# Altium footprint library main.PcbLib: 34 footprints (part 2 of 3)
Each footprint in its own frame and in the unit in brackets; x right, y up, seen from the top. Pads: shape width x height; smd on the part's side, far side on the other; paste and mask are expansions set on the pad; w line width, h text height; cw(c..) or ccw(c..) is an arc to the next point about the centre after c.
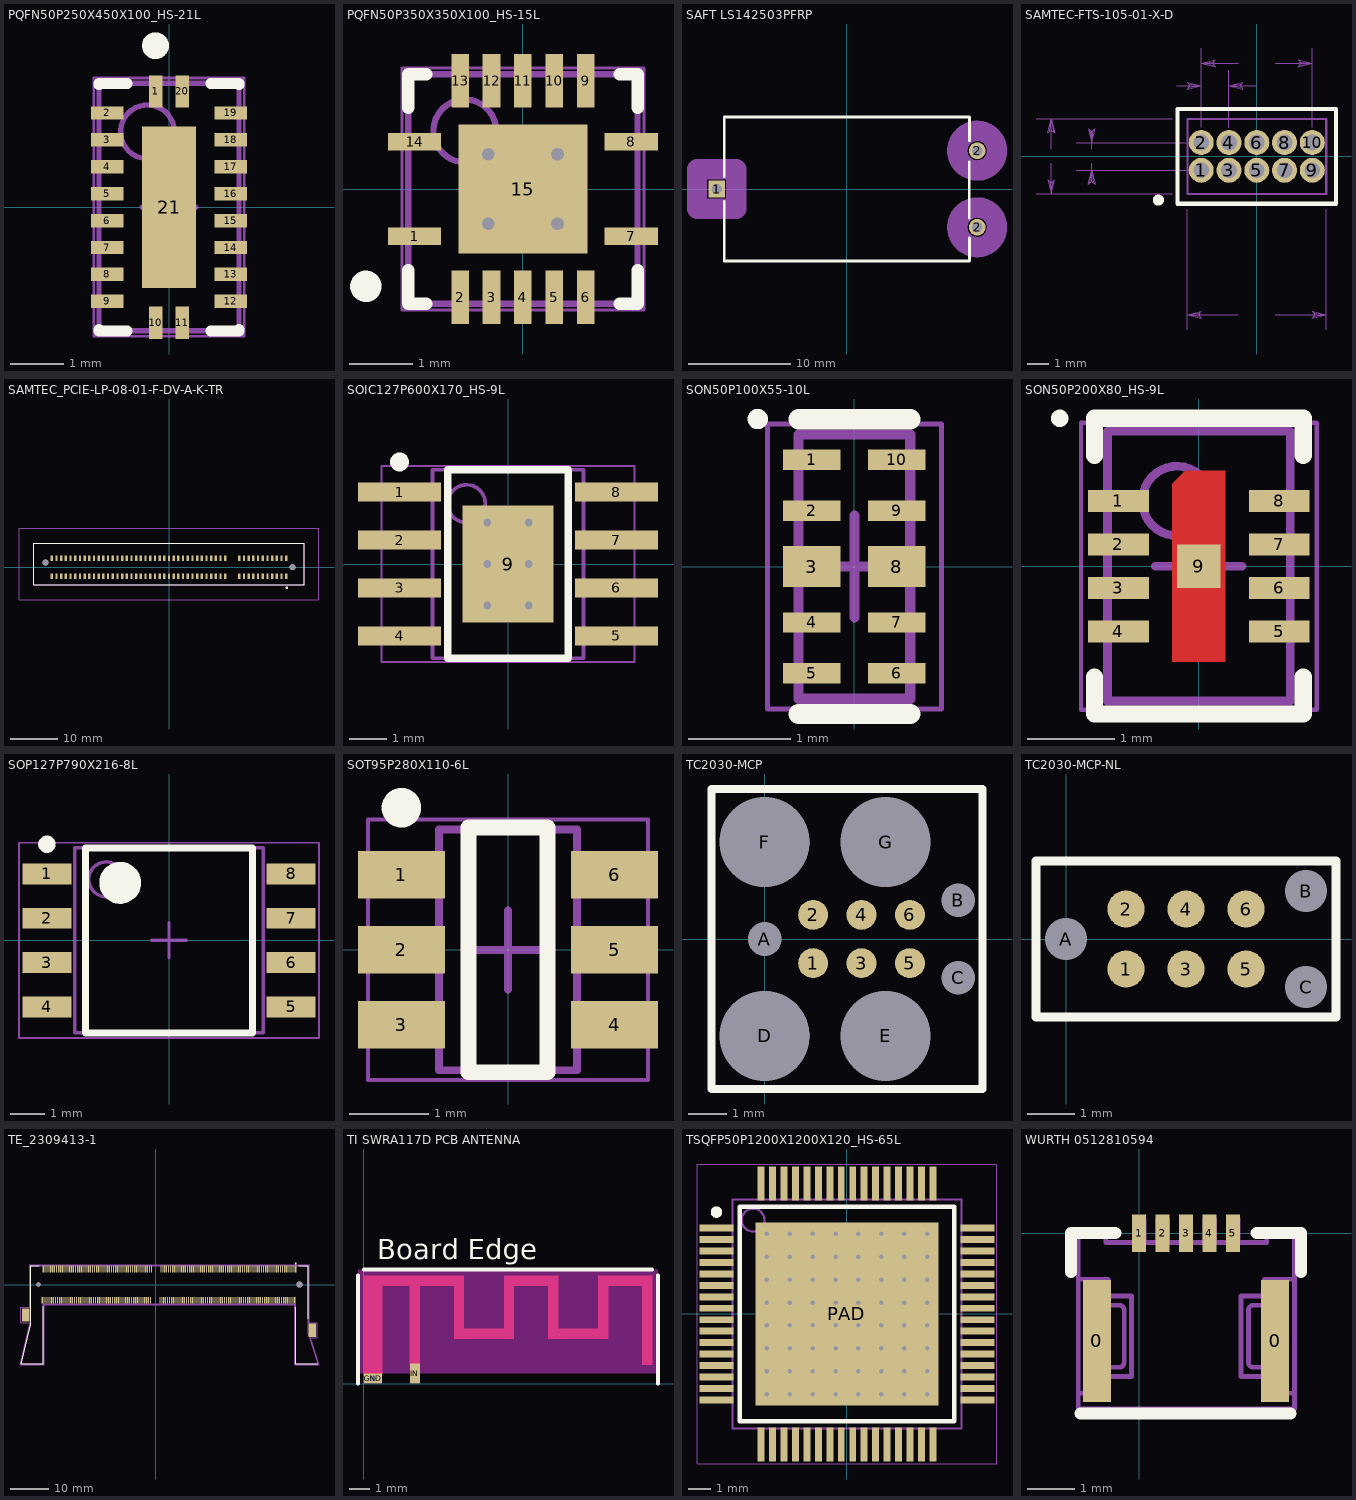
[diagram p1: the footprints below, top view; thin cyan lines are the x and y axes]

## PQFN50P250X450X100_HS-21L [mm] "PQFN, 20-Leads, Body 2.50x4.50mm, Pitch 0.50mm, Thermal Pad 1.00x3.00mm, IPC High Density"
height 1
pads (21):
  rect 0.25x0.6 smd: 1(-0.25,2.15) 10(-0.25,-2.15) 11(0.25,-2.15) 20(0.25,2.15)
  rect 0.6x0.25 smd: 2(-1.15,1.75) 3(-1.15,1.25) 4(-1.15,0.75) 5(-1.15,0.25) 6(-1.15,-0.25) 7(-1.15,-0.75) 8(-1.15,-1.25) 9(-1.15,-1.75) 12(1.15,-1.75) 13(1.15,-1.25) 14(1.15,-0.75) 15(1.15,-0.25) 16(1.15,0.25) 17(1.15,0.75) 18(1.15,1.25) 19(1.15,1.75)
  rect 1x3 smd: 21(0,0)
Top Overlay:
  circle w0.25: c-0.25,3 r0.125
  lines w0.2: -1.3,-2.275 -1.3,-2.3 -0.775,-2.3 ; -1.3,2.275 -1.3,2.3 -0.775,2.3 ; 0.775,-2.3 1.3,-2.3 1.3,-2.275 ; 0.775,2.3 1.3,2.3 1.3,2.275
Mechanical 13:
  circle w0.1: c-0.4,1.4 r0.5
  lines w0.1: -1.3,-2.3 -1.3,2.3 1.3,2.3 1.3,-2.3 -1.3,-2.3
Mechanical 15:
  lines w0.05: -1.4,-2.4 -1.4,2.4 1.4,2.4 1.4,-2.4 -1.4,-2.4
  lines w0.1: -0.5,0 0.5,0 ; 0,-0.5 0,0.5
3D body: height 1, standoff 0, extent -1.3,-2.3 1.3,2.3

## PQFN50P350X350X100_HS-15L [mm] "PQFN, 14-Leads, Body 3.50x3.50mm, Pitch 0.50mm/1.50mm, Thermal Pad 2.05x2.05mm, IPC High Density"
height 1
pads (15):
  rect 0.85x0.28 smd: 1(-1.725,-0.75) 7(1.725,-0.75) 8(1.725,0.75) 14(-1.725,0.75)
  rect 0.28x0.85 smd: 2(-1,-1.725) 3(-0.5,-1.725) 4(0,-1.725) 5(0.5,-1.725) 6(1,-1.725) 9(1,1.725) 10(0.5,1.725) 11(0,1.725) 12(-0.5,1.725) 13(-1,1.725)
  rect 2.05x2.05 smd: 15(0,0)
via 0.55,-0.55 diameter 0.5 hole 0.2
via -0.55,-0.55 diameter 0.5 hole 0.2
via 0.55,0.55 diameter 0.5 hole 0.2
via -0.55,0.55 diameter 0.5 hole 0.2
Top Overlay:
  circle w0.25: c-2.5,-1.55 r0.125
  lines w0.2: -1.825,-1.29 -1.825,-1.825 -1.54,-1.825 ; -1.825,1.29 -1.825,1.825 -1.54,1.825 ; 1.54,-1.825 1.825,-1.825 1.825,-1.29 ; 1.54,1.825 1.825,1.825 1.825,1.29
Mechanical 13:
  circle w0.1: c-0.925,0.925 r0.5
  lines w0.1: -1.825,-1.825 1.825,-1.825 1.825,1.825 -1.825,1.825 -1.825,-1.825
Mechanical 15:
  lines w0.05: -1.925,-1.925 1.925,-1.925 1.925,1.925 -1.925,1.925 -1.925,-1.925
  lines w0.1: -0.5,0 0.5,0 ; 0,-0.5 0,0.5
3D body "PQFN50P350X350X100_HS-15L.step": height 1, standoff 0, extent -1.825,-1.825 1.825,1.825

## SAFT LS142503PFRP [mm]
height 16
pads (3):
  rect 1.65x1.65 hole 1: 1(-12.75,0)
  round 1.65 hole 1: 2(12.75,-3.75) 2(12.75,3.75)
Top Overlay:
  lines w0.254: -12,-1.208 -12,-7.05 12,-7.05 12,-4.812 11.989,-4.801 ; -12,1.205 -12,7.05 12,7.05 12,4.736 ; 11.989,-2.87 11.989,2.642
Mechanical 20:
  circle w2: c12.75,-3.75 r1.939
  circle w2: c12.75,3.75 r1.939
  lines w2: -14.681,-1.93 -14.681,1.93 -10.82,1.93 -10.82,-1.93 -14.681,-1.93
3D body "User Library-ER14250.STEP": height 14.47, standoff -0.03, extent -12.7,-7.3 12.7,7.2

## SAMTEC-FTS-105-01-X-D [mil]
pads (10):
  round 45 hole 27.95: 1(-100,-25) 2(-100,25) 3(-50,-25) 4(-50,25) 5(0,-25) 6(0,25) 7(50,-25) 8(50,25) 9(100,-25) 10(100,25)
Top Overlay:
  circle w10: c-177.17,-78.74 r4.96
  lines w7.87: -142.72,-85.24 142.72,-85.24 142.72,85.24 -142.72,85.24 -142.72,-85.24
Top Solder:
  circle w0: c100,25 r24.49
  circle w0: c100,-25 r24.49
  circle w0: c50,25 r24.49
  circle w0: c50,-25 r24.49
  circle w0: c0,25 r24.49
  circle w0: c0,-25 r24.49
  circle w0: c-50,25 r24.49
  circle w0: c-50,-25 r24.49
  circle w0: c-100,25 r24.49
  circle w0: c-100,-25 r24.49
Bottom Solder:
  circle w0: c100,25 r24.49
  circle w0: c100,-25 r24.49
  circle w0: c50,25 r24.49
  circle w0: c50,-25 r24.49
  circle w0: c0,25 r24.49
  circle w0: c0,-25 r24.49
  circle w0: c-50,25 r24.49
  circle w0: c-50,-25 r24.49
  circle w0: c-100,25 r24.49
  circle w0: c-100,-25 r24.49
Mechanical 16:
  lines w3.94: -125,-67.48 -75,-67.48 -25,-67.48 25,-67.48 75,-67.48 125,-67.48 125,67.48 75,67.48 25,67.48 -25,67.48 -75,67.48 -125,67.48 -125,-67.48 ; -107.99,-32.99 -107.99,-17.01 -92.01,-17.01 -92.01,-32.99 -107.99,-32.99 ; -107.99,17.01 -92.01,17.01 -92.01,32.99 -107.99,32.99 -107.99,17.01 ; -57.99,-32.99 -42.01,-32.99 -42.01,-17.01 -57.99,-17.01 -57.99,-32.99 ; -57.99,17.01 -42.01,17.01 -42.01,32.99 -57.99,32.99 -57.99,17.01 ; -7.99,-32.99 7.99,-32.99 7.99,-17.01 -7.99,-17.01 -7.99,-32.99 ; -7.99,17.01 7.99,17.01 7.99,32.99 -7.99,32.99 -7.99,17.01 ; 42.01,-32.99 57.99,-32.99 57.99,-17.01 42.01,-17.01 42.01,-32.99 ; 42.01,17.01 57.99,17.01 57.99,32.99 42.01,32.99 42.01,17.01 ; 92.01,-32.99 107.99,-32.99 107.99,-17.01 92.01,-17.01 92.01,-32.99 ; 92.01,17.01 107.99,17.01 107.99,32.99 92.01,32.99 92.01,17.01
Mechanical 40:
  lines w0: -397.6,-67.48 -152.6,-67.48 ; -397.6,67.48 -152.6,67.48 ; -370,-12.52 -370,-67.48 ; -370,12.52 -370,67.48 ; -325.12,-25 -127.6,-25 ; -325.12,25 -127.6,25 ; -297.48,-12.52 -297.48,-25 ; -297.48,12.52 -297.48,25 ; -144.02,127.48 -100,127.48 ; -125,-312.6 -125,-95.12 ; -100,155.12 -100,52.6 -100,195.12 ; -50,52.6 -50,155.12 ; -33.5,-285 -125,-285 ; -33.5,167.48 -100,167.48 ; 0,127.48 -50,127.48 ; 33.5,-285 125,-285 ; 33.5,167.48 100,167.48 ; 100,52.6 100,195.12 ; 125,-312.6 125,-95.12 ; -376.26,-42.52 -373.11,-45 -370,-67.48 ; -376.26,-42.52 -370,-47.48 ; -376.26,-42.52 -370,-67.48 ; -370,-67.48 -370,-47.48 ; -370,-67.48 -366.89,-45 -370,-47.48 ; -370,-67.48 -363.74,-42.52 -370,-47.48 ; -370,47.48 -370,67.48 ; -370,47.48 -373.11,45 -370,67.48 ; -370,47.48 -363.74,42.52 ; -370,47.48 -376.26,42.52 -370,67.48 ; -370,67.48 -366.89,45 -363.74,42.52 ; -370,67.48 -363.74,42.52 ; -303.74,50 -300.63,47.48 -297.48,25 ; -303.74,50 -297.48,45 ; -303.74,50 -297.48,25 ; -297.48,-45 -297.48,-25 ; -297.48,-45 -300.63,-47.48 -297.48,-25 ; -297.48,-45 -291.26,-50 ; -297.48,-45 -303.74,-50 -297.48,-25 ; -297.48,-25 -294.37,-47.48 -291.26,-50 ; -297.48,-25 -291.26,-50 ; -297.48,25 -297.48,45 ; -297.48,25 -294.37,47.48 -297.48,45 ; -297.48,25 -291.26,50 -297.48,45 ; -125,-285 -102.52,-281.89 -100,-278.74 ; -125,-285 -105,-285 ; -125,-285 -102.52,-288.11 -105,-285 ; -125,-285 -100,-291.26 -105,-285 ; -125,-285 -100,-278.74 ; -125,121.26 -122.52,124.37 -100,127.48 ; -125,121.26 -120,127.48 ; -125,121.26 -100,127.48 ; -120,127.48 -100,127.48 ; -120,127.48 -122.52,130.63 -100,127.48 ; -120,127.48 -125,133.74 -100,127.48 ; -105,-285 -100,-278.74 ; -100,167.48 -77.48,170.63 -75,173.74 ; -100,167.48 -80,167.48 ; -100,167.48 -77.48,164.37 -80,167.48 ; -100,167.48 -75,161.26 -80,167.48 ; -100,167.48 -75,173.74 ; -80,167.48 -75,173.74 ; -50,127.48 -27.48,130.63 -25,133.74 ; -50,127.48 -30,127.48 ; -50,127.48 -27.48,124.37 -30,127.48 ; -50,127.48 -25,121.26 -30,127.48 ; -50,127.48 -25,133.74 ; -30,127.48 -25,133.74 ; 75,161.26 77.48,164.37 100,167.48 ; 75,161.26 80,167.48 ; 75,161.26 100,167.48 ; 80,167.48 100,167.48 ; 80,167.48 77.48,170.63 100,167.48 ; 80,167.48 75,173.74 100,167.48 ; 100,-291.26 102.52,-288.11 125,-285 ; 100,-291.26 105,-285 ; 100,-291.26 125,-285 ; 105,-285 125,-285 ; 105,-285 102.52,-281.89 125,-285 ; 105,-285 100,-278.74 125,-285
  text "5.080" at -25.98,162.52 h15.5
  text "6.350" at -25.98,-290 h15.5
  text "1.270" at -203.5,122.52 h15.5
  text "1.270" at -323.5,-5 h15.5
  text "3.429" at -395.98,-5 h15.5
Mechanical 42:
  lines w3.94: -142.72,-85.24 142.72,-85.24 142.72,85.24 -142.72,85.24 -142.72,-85.24
3D body "FTS-105-01-L-D.stp": height 154.5, standoff -89.5, extent -125.01,-67.5 124.99,67.5

## SAMTEC_PCIE-LP-08-01-F-DV-A-K-TR [mm]
pads (100):
  rect 0.5x1.2 smd: A01(25,-1.9) A02(24,-1.9) A03(23,-1.9) A04(22,-1.9) A05(21,-1.9) A06(20,-1.9) A07(19,-1.9) A08(18,-1.9) A09(17,-1.9) A10(16,-1.9) A11(15,-1.9) A12(12,-1.9) A13(11,-1.9) A14(10,-1.9) A15(9,-1.9) A16(8,-1.9) A17(7,-1.9) A18(6,-1.9) A19(5,-1.9) A20(4,-1.9) A21(3,-1.9) A22(2,-1.9) A23(1,-1.9) A24(0,-1.9) A25(-1,-1.9) A26(-2,-1.9) A27(-3,-1.9) A28(-4,-1.9) A29(-5,-1.9) A30(-6,-1.9) A31(-7,-1.9) A32(-8,-1.9) A33(-9,-1.9) A34(-10,-1.9) A35(-11,-1.9) A36(-12,-1.9) A37(-13,-1.9) A38(-14,-1.9) A39(-15,-1.9) A40(-16,-1.9) A41(-17,-1.9) A42(-18,-1.9) A43(-19,-1.9) A44(-20,-1.9) A45(-21,-1.9) A46(-22,-1.9) A47(-23,-1.9) A48(-24,-1.9) A49(-25,-1.9) B01(25,1.9) B02(24,1.9) B03(23,1.9) B04(22,1.9) B05(21,1.9) B06(20,1.9) B07(19,1.9) B08(18,1.9) B09(17,1.9) B10(16,1.9) B11(15,1.9) B12(12,1.9) B13(11,1.9) B14(10,1.9) B15(9,1.9) B16(8,1.9) B17(7,1.9) B18(6,1.9) B19(5,1.9) B20(4,1.9) B21(3,1.9) B22(2,1.9) B23(1,1.9) B24(0,1.9) B25(-1,1.9) B26(-2,1.9) B27(-3,1.9) B28(-4,1.9) B29(-5,1.9) B30(-6,1.9) B31(-7,1.9) B32(-8,1.9) B33(-9,1.9) B34(-10,1.9) B35(-11,1.9) B36(-12,1.9) B37(-13,1.9) B38(-14,1.9) B39(-15,1.9) B40(-16,1.9) B41(-17,1.9) B42(-18,1.9) B43(-19,1.9) B44(-20,1.9) B45(-21,1.9) B46(-22,1.9) B47(-23,1.9) B48(-24,1.9) B49(-25,1.9)
  round 1.27 hole 1.27 unplated: ""(-26.35,1) ""(26.35,0)
Top Overlay:
  circle w0.3: c25.1,-4.4 r0.1
  lines w0.2: -28.8,-3.75 -28.8,5.1 28.8,5.1 28.8,-3.75 -28.8,-3.75
Mechanical 13:
  circle w0.3: c25.1,-4.4 r0.1
  lines w0.1: -28.8,-3.75 -28.8,5.1 28.8,5.1 28.8,-3.75 -28.8,-3.75
Mechanical 15:
  lines w0.05: -32,-6.93 -32,8.28 32,8.28 32,-6.93 -32,-6.93

## SOIC127P600X170_HS-9L [mm] "SOIC, 8-Leads, Body 4.90x3.90mm, Pitch 1.27mm, Thermal Pad 3.10x2.40mm, IPC High Density"
height 1.7
pads (9):
  rect 2.2x0.5 smd: 1(-2.875,1.905) 2(-2.875,0.635) 3(-2.875,-0.635) 4(-2.875,-1.905) 5(2.875,-1.905) 6(2.875,-0.635) 7(2.875,0.635) 8(2.875,1.905)
  rect 2.4x3.1 smd: 9(0,0)
via 0.55,-1.1 diameter 0.5 hole 0.2
via -0.55,-1.1 diameter 0.5 hole 0.2
via 0.55,0 diameter 0.5 hole 0.2
via -0.55,0 diameter 0.5 hole 0.2
via 0.55,1.1 diameter 0.5 hole 0.2
via -0.55,1.1 diameter 0.5 hole 0.2
Top Overlay:
  circle w0.25: c-2.875,2.705 r0.125
  lines w0.2: -1.6,-2.5 1.6,-2.5 1.6,2.5 -1.6,2.5 -1.6,-2.5
Mechanical 13:
  circle w0.1: c-1.1,1.6 r0.5
  lines w0.1: -2,-2.5 2,-2.5 2,2.5 -2,2.5 -2,-2.5
Mechanical 15:
  lines w0.05: -3.35,-2.6 3.35,-2.6 3.35,2.6 -3.35,2.6 -3.35,-2.6
  lines w0.1: -0.5,0 0.5,0 ; 0,-0.5 0,0.5
3D body "SOIC127P600X170_HS-9L.step": height 1.7, standoff 0, extent -3,-2.5 3,2.5

## SON50P100X55-10L [mm] "SON, 10-Leads, Body 2.50x1.00mm, Pitch 0.50mm, IPC High Density"
height 0.55
pads (10):
  rect 0.565x0.2 smd mask+0.07: 1(-0.417,1.05) 2(-0.417,0.55) 4(-0.417,-0.55) 5(-0.417,-1.05) 6(0.417,-1.05) 7(0.417,-0.55) 9(0.417,0.55) 10(0.417,1.05)
  rect 0.565x0.4 smd mask+0.07: 3(-0.417,0) 8(0.417,0)
Top Overlay:
  circle w0.1: c-0.95,1.45 r0.05
  lines w0.2: -0.55,-1.45 0.55,-1.45 ; -0.55,1.45 0.55,1.45
Mechanical 13:
  lines w0.1: -0.55,-1.3 -0.55,1.3 0.55,1.3 0.55,-1.3 -0.55,-1.3
Mechanical 15:
  lines w0.05: -0.855,-1.4 -0.855,1.4 0.855,1.4 0.855,-1.4 -0.855,-1.4
  lines w0.1: -0.5,0 0.5,0 ; 0,-0.5 0,0.5
3D body "SON50P100X55-10L.step": height 0.55, standoff 0, extent -0.63,-1.3 0.63,1.3

## SON50P200X80_HS-9L [mm] "SON, 8-Leads, Body 3.00x2.00mm, Pitch 0.50mm, Thermal Pad 0.00x0.00mm, IPC High Density"
height 0.8
pads (9):
  rect 0.7x0.25 smd: 1(-0.925,0.75) 2(-0.925,0.25) 3(-0.925,-0.25) 4(-0.925,-0.75) 5(0.925,-0.75) 6(0.925,-0.25) 7(0.925,0.25) 8(0.925,0.75)
  rect 0.5x0.5 smd paste+0 mask+0: 9(0,0)
Top Layer:
  region: -0.305,-1.1 0.305,-1.1 0.305,1.1 -0.155,1.1 -0.305,0.95
Top Overlay:
  circle w0.1: c-1.6,1.7 r0.05
  lines w0.2: -1.2,-1.275 -1.2,-1.7 1.2,-1.7 1.2,-1.275 ; -1.2,1.275 -1.2,1.7 1.2,1.7 1.2,1.275
Mechanical 13:
  circle w0.1: c-0.25,0.75 r0.4
  lines w0.1: -1.05,-1.55 -1.05,1.55 1.05,1.55 1.05,-1.55 -1.05,-1.55
Mechanical 15:
  lines w0.05: -1.355,-1.65 -1.355,1.65 1.355,1.65 1.355,-1.65 -1.355,-1.65
  lines w0.1: -0.5,0 0.5,0 ; 0,-0.5 0,0.5
3D body: height 0.8, standoff 0, extent -1.05,-1.55 1.05,1.55

## SOP127P790X216-8L [mm] "SOP, 8-Leads, Body 5.23x5.28mm, Pitch 1.27mm, IPC High Density"
height 2.16
pads (8):
  rect 1.4x0.6 smd: 1(-3.5,1.905) 2(-3.5,0.635) 3(-3.5,-0.635) 4(-3.5,-1.905) 5(3.5,-1.905) 6(3.5,-0.635) 7(3.5,0.635) 8(3.5,1.905)
Top Overlay:
  circle w0.6: c-1.4,1.65 r0.3
  circle w0.25: c-3.5,2.755 r0.125
  lines w0.2: -2.4,-2.65 2.4,-2.65 2.4,2.65 -2.4,2.65 -2.4,-2.65
Mechanical 13:
  circle w0.1: c-1.8,1.75 r0.5
  lines w0.1: -2.7,-2.65 2.7,-2.65 2.7,2.65 -2.7,2.65 -2.7,-2.65
Mechanical 15:
  lines w0.05: -4.3,-2.8 4.3,-2.8 4.3,2.8 -4.3,2.8 -4.3,-2.8
  lines w0.1: -0.5,0 0.5,0 ; 0,-0.5 0,0.5
3D body "SOP127P790X216-8L.step": height 2.16, standoff 0, extent -3.95,-2.65 3.95,2.65

## SOT95P280X110-6L [mm] "SOT23, 6-Leads, Body 2.90x2.80mm, Pitch 0.95mm, IPC High Density"
height 1.1
pads (6):
  rect 1.1x0.6 smd mask+0.07: 1(-1.35,0.95) 2(-1.35,0) 3(-1.35,-0.95) 4(1.35,-0.95) 5(1.35,0) 6(1.35,0.95)
Top Overlay:
  circle w0.25: c-1.35,1.8 r0.125
  lines w0.2: -0.5,-1.55 0.5,-1.55 0.5,1.55 -0.5,1.55 -0.5,-1.55
Mechanical 13:
  lines w0.1: -0.875,-1.525 -0.875,1.525 0.875,1.525 0.875,-1.525 -0.875,-1.525
Mechanical 15:
  lines w0.05: -1.775,-1.65 -1.775,1.65 1.775,1.65 1.775,-1.65 -1.775,-1.65
  lines w0.1: -0.5,0 0.5,0 ; 0,-0.5 0,0.5
3D body "SOT95P280X110-6L.step": height 1.1, standoff 0, extent -1.525,-1.525 1.525,1.525

## TC2030-MCP [mil]
pads (13):
  round 31 smd: 1(50,-25) 2(50,25) 3(100,-25) 4(100,25) 5(150,-25) 6(150,25)
  round 34 hole 35 unplated: A(0,0) B(200,40) C(200,-40)
  round 92 hole 93 unplated: D(0,-100) E(125,-100) F(0,100) G(125,100)
Top Overlay:
  lines w7.87: -55,-155 225,-155 225,155 -55,155 -55,-155

## TC2030-MCP-NL [mil]
pads (9):
  round 31 smd: 1(50,-25) 2(50,25) 3(100,-25) 4(100,25) 5(150,-25) 6(150,25)
  round 34 hole 35 unplated: A(0,0) B(200,40) C(200,-40)
Top Overlay:
  lines w7.87: -25,-65 225,-65 225,65 -25,65 -25,-65

## TE_2309413-1 [mm]
pads (264):
  rect 0.3x1.75 smd: 1(36.875,4.1) 2(36.625,-4.1) 3(36.375,4.1) 4(36.125,-4.1) 5(35.875,4.1) 6(35.625,-4.1) 7(35.375,4.1) 8(35.125,-4.1) 9(34.875,4.1) 10(34.625,-4.1) 11(34.375,4.1) 12(34.125,-4.1) 13(33.875,4.1) 14(33.625,-4.1) 15(33.375,4.1) 16(33.125,-4.1) 17(32.875,4.1) 18(32.625,-4.1) 19(32.375,4.1) 20(32.125,-4.1) 21(31.875,4.1) 22(31.625,-4.1) 23(31.375,4.1) 24(31.125,-4.1) 25(30.875,4.1) 26(30.625,-4.1) 27(30.375,4.1) 28(30.125,-4.1) 29(29.875,4.1) 30(29.625,-4.1) 31(29.375,4.1) 32(29.125,-4.1) 33(28.875,4.1) 34(28.625,-4.1) 35(28.375,4.1) 36(28.125,-4.1) 37(27.875,4.1) 38(27.625,-4.1) 39(27.375,4.1) 40(27.125,-4.1) 41(26.875,4.1) 42(26.625,-4.1) 43(26.375,4.1) 44(26.125,-4.1) 45(25.875,4.1) 46(25.625,-4.1) 47(25.375,4.1) 48(25.125,-4.1) 49(24.875,4.1) 50(24.625,-4.1) 51(24.375,4.1) 52(24.125,-4.1) 53(23.875,4.1) 54(23.625,-4.1) 55(23.375,4.1) 56(23.125,-4.1) 57(22.875,4.1) 58(22.625,-4.1) 59(22.375,4.1) 60(22.125,-4.1) 61(21.875,4.1) 62(21.625,-4.1) 63(21.375,4.1) 64(21.125,-4.1) 65(20.875,4.1) 66(20.625,-4.1) 67(20.375,4.1) 68(20.125,-4.1) 69(19.875,4.1) 70(19.625,-4.1) 71(19.375,4.1) 72(19.125,-4.1) 73(18.875,4.1) 74(18.625,-4.1) 75(18.375,4.1) 76(18.125,-4.1) 77(17.875,4.1) 78(17.625,-4.1) 79(17.375,4.1) 80(17.125,-4.1) 81(16.875,4.1) 82(16.625,-4.1) 83(16.375,4.1) 84(16.125,-4.1) 85(15.875,4.1) 86(15.625,-4.1) 87(15.375,4.1) 88(15.125,-4.1) 89(14.875,4.1) 90(14.625,-4.1) 91(14.375,4.1) 92(14.125,-4.1) 93(13.875,4.1) 94(13.625,-4.1) 95(13.375,4.1) 96(13.125,-4.1) 97(12.875,4.1) 98(12.625,-4.1) 99(12.375,4.1) 100(12.125,-4.1) 101(11.875,4.1) 102(11.625,-4.1) 103(11.375,4.1) 104(11.125,-4.1) 105(10.875,4.1) 106(10.625,-4.1) 107(10.375,4.1) 108(10.125,-4.1) 109(9.875,4.1) 110(9.625,-4.1) 111(9.375,4.1) 112(9.125,-4.1) 113(8.875,4.1) 114(8.625,-4.1) 115(8.375,4.1) 116(8.125,-4.1) 117(7.875,4.1) 118(7.625,-4.1) 119(7.375,4.1) 120(7.125,-4.1) 121(6.875,4.1) 122(6.625,-4.1) 123(6.375,4.1) 124(6.125,-4.1) 125(5.875,4.1) 126(5.625,-4.1) 127(5.375,4.1) 128(5.125,-4.1) 129(4.875,4.1) 130(4.625,-4.1) 131(4.375,4.1) 132(4.125,-4.1) 133(3.875,4.1) 134(3.625,-4.1) 135(3.375,4.1) 136(3.125,-4.1) 137(2.875,4.1) 138(2.625,-4.1) 139(2.375,4.1) 140(2.125,-4.1) 141(1.875,4.1) 142(1.625,-4.1) 143(1.375,4.1) 144(1.125,-4.1) 145(-1.125,4.1) 146(-1.375,-4.1) 147(-1.625,4.1) 148(-1.875,-4.1) 149(-2.125,4.1) 150(-2.375,-4.1) 151(-2.625,4.1) 152(-2.875,-4.1) 153(-3.125,4.1) 154(-3.375,-4.1) 155(-3.625,4.1) 156(-3.875,-4.1) 157(-4.125,4.1) 158(-4.375,-4.1) 159(-4.625,4.1) 160(-4.875,-4.1) 161(-5.125,4.1) 162(-5.375,-4.1) 163(-5.625,4.1) 164(-5.875,-4.1) 165(-6.125,4.1) 166(-6.375,-4.1) 167(-6.625,4.1) 168(-6.875,-4.1) 169(-7.125,4.1) 170(-7.375,-4.1) 171(-7.625,4.1) 172(-7.875,-4.1) 173(-8.125,4.1) 174(-8.375,-4.1) 175(-8.625,4.1) 176(-8.875,-4.1) 177(-9.125,4.1) 178(-9.375,-4.1) 179(-9.625,4.1) 180(-9.875,-4.1) 181(-10.125,4.1) 182(-10.375,-4.1) 183(-10.625,4.1) 184(-10.875,-4.1) 185(-11.125,4.1) 186(-11.375,-4.1) 187(-11.625,4.1) 188(-11.875,-4.1) 189(-12.125,4.1) 190(-12.375,-4.1) 191(-12.625,4.1) 192(-12.875,-4.1) 193(-13.125,4.1) 194(-13.375,-4.1) 195(-13.625,4.1) 196(-13.875,-4.1) 197(-14.125,4.1) 198(-14.375,-4.1) 199(-14.625,4.1) 200(-14.875,-4.1) 201(-15.125,4.1) 202(-15.375,-4.1) 203(-15.625,4.1) 204(-15.875,-4.1) 205(-16.125,4.1) 206(-16.375,-4.1) 207(-16.625,4.1) 208(-16.875,-4.1) 209(-17.125,4.1) 210(-17.375,-4.1) 211(-17.625,4.1) 212(-17.875,-4.1) 213(-18.125,4.1) 214(-18.375,-4.1) 215(-18.625,4.1) 216(-18.875,-4.1) 217(-19.125,4.1) 218(-19.375,-4.1) 219(-19.625,4.1) 220(-19.875,-4.1) 221(-20.125,4.1) 222(-20.375,-4.1) 223(-20.625,4.1) 224(-20.875,-4.1) 225(-21.125,4.1) 226(-21.375,-4.1) 227(-21.625,4.1) 228(-21.875,-4.1) 229(-22.125,4.1) 230(-22.375,-4.1) 231(-22.625,4.1) 232(-22.875,-4.1) 233(-23.125,4.1) 234(-23.375,-4.1) 235(-23.625,4.1) 236(-23.875,-4.1) 237(-24.125,4.1) 238(-24.375,-4.1) 239(-24.625,4.1) 240(-24.875,-4.1) 241(-25.125,4.1) 242(-25.375,-4.1) 243(-25.625,4.1) 244(-25.875,-4.1) 245(-26.125,4.1) 246(-26.375,-4.1) 247(-26.625,4.1) 248(-26.875,-4.1) 249(-27.125,4.1) 250(-27.375,-4.1) 251(-27.625,4.1) 252(-27.875,-4.1) 253(-28.125,4.1) 254(-28.375,-4.1) 255(-28.625,4.1) 256(-28.875,-4.1) 257(-29.125,4.1) 258(-29.375,-4.1) 259(-29.625,4.1) 260(-29.875,-4.1)
  rect 2x3.5 smd: SH1(41.25,-12) SH2(-34.25,-8)
  round 1.1 hole 1.1 unplated: ""(-30.9,0)
  round 1.6 hole 1.6 unplated: ""(37.9,0)
Top Overlay:
  circle w0.2: c36.875,5.5 r0.1
  lines w0.127: -30.725,5 -32.875,5 -32.875,-10.425 -35.375,-20.85 -29.625,-20.85 -29.625,-5.75 ; 36.875,-6 36.875,-20.85 42.625,-20.85 ; 37.725,5 40.125,5 40.125,-9.031
Mechanical 13:
  circle w0.1: c36.875,4.5 r0.05
  lines w0.127: -35.375,-20.85 -32.875,-10.425 -32.875,5 40.125,5 40.125,-13.031 42.625,-20.85 36.875,-20.85 36.875,-5 -29.625,-5 -29.625,-20.85 -35.375,-20.85
Mechanical 15:
  lines w0.05: -35.625,-21.1 -29.375,-21.1 -29.375,-5.25 36.625,-5.25 36.625,-21.1 42.875,-21.1 40.875,-14.531 40.875,-14 42.5,-14 42.5,-10 40.375,-10 40.375,5.25 -33.125,5.25 -33.125,-6 -35.5,-6 -35.5,-10 -33.125,-10 -33.125,-10.425 -35.625,-21.1
3D body "c-2309413-1-1-3d.stp": height 9.65, standoff 0, extent -34.545,-20.85 41.554,5

## TI SWRA117D PCB ANTENNA [mm]
pads (2):
  rect 0.9x0.5 / inner rect 0x0 / far side rect 0.9x0.5 hole 0.3 paste-0.45 mask+0: GND(0.45,0.25)
  rect 0.5x1 / inner rect 0x0 / far side rect 0x0 all layers, no hole paste-0.5 mask+0: IN(2.55,0.5)
Top Layer:
  region: 2.3,0.888 2.8,0.888 2.8,4.9 2.3,4.9
  region: 13.9,4.9 14.4,4.9 14.4,0.96 13.9,0.96
  region: 11.7,4.9 11.7,5.4 14.4,5.4 14.4,4.9
  region: 12.2,2.26 11.7,2.26 11.7,4.9 12.2,4.9
  region: 9.7,2.26 9.7,2.76 11.7,2.76 11.7,2.26
  region: 9.2,4.9 9.7,4.9 9.7,2.26 9.2,2.26
  region: 7,4.9 7,5.4 9.7,5.4 9.7,4.9
  region: 7.5,2.26 7,2.26 7,4.9 7.5,4.9
  region: 5,2.26 5,2.76 7,2.76 7,2.26
  region: 4.5,4.9 5,4.9 5,2.26 4.5,2.26
  region: 0,4.9 0,5.4 5,5.4 5,4.9
  region: 0,0.463 0.9,0.463 0.9,4.9 0,4.9
Top Overlay:
  lines w0.2: -0.3,0 -0.3,5.4 ; 0,5.7 14.4,5.7 ; 14.7,0 14.7,5.4
  text "Board Edge" at 0.65,6.233 h1
Keep-Out Layer:
  rectangle: -0.3,0.5 14.7,5.7

## TSQFP50P1200X1200X120_HS-65L [mm] "TSQFP, 64-Leads, Body 10.00x10.00mm, Pitch 0.50mm, Thermal Pad 8.00x8.00mm, IPC High Density"
height 1.2
pads (65):
  rect 1.5x0.3 smd mask+0.05: 1(-5.7,3.75) 2(-5.7,3.25) 3(-5.7,2.75) 4(-5.7,2.25) 5(-5.7,1.75) 6(-5.7,1.25) 7(-5.7,0.75) 8(-5.7,0.25) 9(-5.7,-0.25) 10(-5.7,-0.75) 11(-5.7,-1.25) 12(-5.7,-1.75) 13(-5.7,-2.25) 14(-5.7,-2.75) 15(-5.7,-3.25) 16(-5.7,-3.75) 33(5.7,-3.75) 34(5.7,-3.25) 35(5.7,-2.75) 36(5.7,-2.25) 37(5.7,-1.75) 38(5.7,-1.25) 39(5.7,-0.75) 40(5.7,-0.25) 41(5.7,0.25) 42(5.7,0.75) 43(5.7,1.25) 44(5.7,1.75) 45(5.7,2.25) 46(5.7,2.75) 47(5.7,3.25) 48(5.7,3.75)
  rect 0.3x1.5 smd mask+0.05: 17(-3.75,-5.7) 18(-3.25,-5.7) 19(-2.75,-5.7) 20(-2.25,-5.7) 21(-1.75,-5.7) 22(-1.25,-5.7) 23(-0.75,-5.7) 24(-0.25,-5.7) 25(0.25,-5.7) 26(0.75,-5.7) 27(1.25,-5.7) 28(1.75,-5.7) 29(2.25,-5.7) 30(2.75,-5.7) 31(3.25,-5.7) 32(3.75,-5.7) 49(3.75,5.7) 50(3.25,5.7) 51(2.75,5.7) 52(2.25,5.7) 53(1.75,5.7) 54(1.25,5.7) 55(0.75,5.7) 56(0.25,5.7) 57(-0.25,5.7) 58(-0.75,5.7) 59(-1.25,5.7) 60(-1.75,5.7) 61(-2.25,5.7) 62(-2.75,5.7) 63(-3.25,5.7) 64(-3.75,5.7)
  rect 8x8 smd mask-1.78: PAD(0,0)
via 3.5,3.5 diameter 0.3 hole 0.2
via 2.5,3.5 diameter 0.3 hole 0.2
via -3.5,3.5 diameter 0.3 hole 0.2
via -2.5,3.5 diameter 0.3 hole 0.2
via -1.5,3.5 diameter 0.3 hole 0.2
via -0.5,3.5 diameter 0.3 hole 0.2
via 0.5,3.5 diameter 0.3 hole 0.2
via 1.5,3.5 diameter 0.3 hole 0.2
via 2.5,-0.5 diameter 0.3 hole 0.2
via 2.5,-2.5 diameter 0.3 hole 0.2
via 3.5,-2.5 diameter 0.3 hole 0.2
via 2.5,-1.5 diameter 0.3 hole 0.2
via 3.5,-1.5 diameter 0.3 hole 0.2
via 2.5,-3.5 diameter 0.3 hole 0.2
via 2.5,0.5 diameter 0.3 hole 0.2
via 3.5,0.5 diameter 0.3 hole 0.2
via 2.5,1.5 diameter 0.3 hole 0.2
via 3.5,1.5 diameter 0.3 hole 0.2
via 2.5,2.5 diameter 0.3 hole 0.2
via 3.5,2.5 diameter 0.3 hole 0.2
via 3.5,-0.5 diameter 0.3 hole 0.2
via 3.5,-3.5 diameter 0.3 hole 0.2
via 1.5,-3.5 diameter 0.3 hole 0.2
via -1.5,1.5 diameter 0.3 hole 0.2
via -0.5,1.5 diameter 0.3 hole 0.2
via 0.5,1.5 diameter 0.3 hole 0.2
via 1.5,1.5 diameter 0.3 hole 0.2
via 0.5,0.5 diameter 0.3 hole 0.2
via 1.5,0.5 diameter 0.3 hole 0.2
via -2.5,-0.5 diameter 0.3 hole 0.2
via -3.5,-1.5 diameter 0.3 hole 0.2
via -3.5,-3.5 diameter 0.3 hole 0.2
via -2.5,-1.5 diameter 0.3 hole 0.2
via -2.5,-3.5 diameter 0.3 hole 0.2
via -2.5,-2.5 diameter 0.3 hole 0.2
via -2.5,0.5 diameter 0.3 hole 0.2
via -3.5,0.5 diameter 0.3 hole 0.2
via -2.5,1.5 diameter 0.3 hole 0.2
via -3.5,1.5 diameter 0.3 hole 0.2
via -2.5,2.5 diameter 0.3 hole 0.2
via -3.5,2.5 diameter 0.3 hole 0.2
via -3.5,-0.5 diameter 0.3 hole 0.2
via -3.5,-2.5 diameter 0.3 hole 0.2
via -0.5,0.5 diameter 0.3 hole 0.2
via 1.5,-0.5 diameter 0.3 hole 0.2
via -1.5,0.5 diameter 0.3 hole 0.2
via -1.5,-0.5 diameter 0.3 hole 0.2
via -0.5,-0.5 diameter 0.3 hole 0.2
via 0.5,-0.5 diameter 0.3 hole 0.2
via 1.5,-1.5 diameter 0.3 hole 0.2
via 0.5,-1.5 diameter 0.3 hole 0.2
via -0.5,-1.5 diameter 0.3 hole 0.2
via -1.5,-1.5 diameter 0.3 hole 0.2
via 1.5,-2.5 diameter 0.3 hole 0.2
via 0.5,-2.5 diameter 0.3 hole 0.2
via -0.5,-2.5 diameter 0.3 hole 0.2
via 1.5,2.5 diameter 0.3 hole 0.2
via -1.5,2.5 diameter 0.3 hole 0.2
via -0.5,2.5 diameter 0.3 hole 0.2
via 0.5,2.5 diameter 0.3 hole 0.2
via -1.5,-3.5 diameter 0.3 hole 0.2
via -0.5,-3.5 diameter 0.3 hole 0.2
via 0.5,-3.5 diameter 0.3 hole 0.2
via -1.5,-2.5 diameter 0.3 hole 0.2
Top Overlay:
  circle w0.25: c-5.7,4.45 r0.125
  lines w0.2: -4.675,-4.675 -4.675,4.675 4.675,4.675 4.675,-4.675 -4.675,-4.675
Mechanical 13:
  circle w0.1: c-4.1,4.1 r0.5
  lines w0.1: -5,-5 -5,5 5,5 5,-5 -5,-5
Mechanical 15:
  lines w0.05: -6.55,-6.55 -6.55,6.55 6.55,6.55 6.55,-6.55 -6.55,-6.55
  lines w0.1: -0.5,0 0.5,0 ; 0,-0.5 0,0.5
3D body "TSQFP50P1200X1200X120_HS-65L.step": height 1.2, standoff 0, extent -6,-6 6,6

## WURTH 0512810594 [mm]
pads (7):
  rect 0.6x2.6 smd: 0(-0.9,-2.3) 0(2.9,-2.3)
  rect 0.3x0.8 smd: 1(0,0) 2(0.5,0) 3(1,0) 4(1.5,0) 5(2,0)
Top Overlay:
  lines w0.254: -1.45,-0.825 -1.45,0 -0.5,0 ; -1.25,-3.85 3.225,-3.85 ; 2.5,0 3.45,0 3.45,-0.825
Mechanical 7:
  lines w0.1: -1.3,-3.416 -0.661,-3.416 -0.661,-3.06 -0.162,-3.06 -0.162,-1.34 -0.661,-1.34 -0.661,-0.983 -1.3,-0.983 ; -1.033,-3.416 -1.033,-0.983 ; -1.027,-2.86 -0.422,-2.86 ccw(c-0.418,-2.762) -0.321,-2.761 -0.321,-1.642 ccw(c-0.418,-1.638) -0.422,-1.54 -1.027,-1.54 ; -0.098,-0.198 -0.098,0.305 0.106,0.305 0.106,-0.198 ; -0.098,-0.048 0.106,-0.048 ; -0.098,0.006 0.106,0.006 ; 0.401,-0.198 0.401,0.305 0.605,0.305 0.605,-0.198 ; 0.401,-0.048 0.605,-0.048 ; 0.401,0.006 0.605,0.006 ; 0.901,-0.198 0.901,0.305 1.104,0.305 1.104,-0.198 ; 0.901,-0.048 1.104,-0.048 ; 0.901,0.006 1.104,0.006 ; 1.406,-0.198 1.406,0.305 1.61,0.305 1.61,-0.198 ; 1.406,-0.048 1.61,-0.048 ; 1.406,0.006 1.61,0.006 ; 1.905,-0.198 1.905,0.305 2.109,0.305 2.109,-0.198 ; 1.905,-0.048 2.109,-0.048 ; 1.905,0.006 2.109,0.006 ; 3.039,-2.86 2.435,-2.86 cw(c2.431,-2.762) 2.333,-2.761 2.333,-1.642 cw(c2.431,-1.638) 2.435,-1.54 3.039,-1.54 ; 3.046,-3.416 3.046,-0.983 ; 3.313,-3.416 2.674,-3.416 2.674,-3.06 2.174,-3.06 2.174,-1.34 2.674,-1.34 2.674,-0.983 3.313,-0.983 ; -1.3,-3.75 3.313,-3.75 3.313,0.006 2.724,0.006 2.724,-0.198 -0.712,-0.198 -0.712,0.006 -1.3,0.006 -1.3,-3.75
  text ".Designator" at 0.829,-2.15 h0.3
3D body "512810594.stp": height 1.2, standoff 0, extent -1.3,-3.85 3.3,0.2